# Altium schematic symbol library SQJ850EP-T2_GE3.SchLib: 1 symbol
Pins are listed as number, name and electrical type; pins without a type are passive.

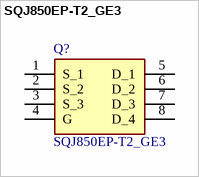
[diagram p0: symbol SQJ850EP-T2_GE3]

## SQJ850EP-T2_GE3
designator Q?
MOSFET N-CHANNEL 60-V (D-S) 175C MOSFET; Manufacturer_Name: Vishay; Geometry.Height: 1.267mm; Mouser Part Number: 78-SQJ850EP-T2_GE3; Mouser Price/Stock: https://www.mouser.co.uk/ProductDetail/Vishay-Siliconix/SQJ850EP-T2_GE3?qs=MLItCLRbWswojS2ixM3GlA%3D%3D; Manufacturer_Part_Number: SQJ850EP-T2_GE3; Datasheet Link: https://www.vishay.com/docs/65280/sqj850ep.pdf
footprint SQJ850EPT2_GE3
pins: 1 S_1, 2 S_2, 3 S_3, 4 G, 5 D_1, 6 D_2, 7 D_3, 8 D_4